# Altium schematic symbol library HDR1.SchLib: 1 symbol
Pins are listed as number, name and electrical type; pins without a type are passive.

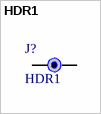
[diagram p0: symbol HDR1]

## HDR1
designator J?
pins: 1, 2